# EAGLE library part CONNEC_1X07 (library rhoban)
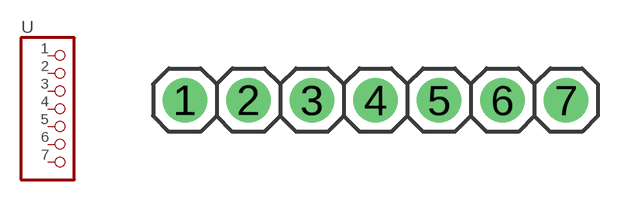
[diagram p7: symbol with the pads of CONNEC_1X07; footprint CONNEC_1X07]

Designator prefix -

## CONNEC_1X07  [CONNEC_1X07]
1  1  pas
2  2  pas
3  3  pas
4  4  pas
5  5  pas
6  6  pas
7  7  pas

## Footprint CONNEC_1X07 (pad centres in mm)
drill 1 pad 1.778: 1 -1.27,1.27; 2 1.27,1.27; 3 3.81,1.27; 4 6.35,1.27; 5 8.89,1.27; 6 11.43,1.27; 7 13.97,1.27